# Altium footprint library ECET231PCBLIB_Rev04.PCBLIB: 16 footprints
Each footprint in its own frame and in the unit in brackets; x right, y up, seen from the top. Pads: shape width x height; smd on the part's side, far side on the other; paste and mask are expansions set on the pad; w line width, h text height; cw(c..) or ccw(c..) is an arc to the next point about the centre after c.
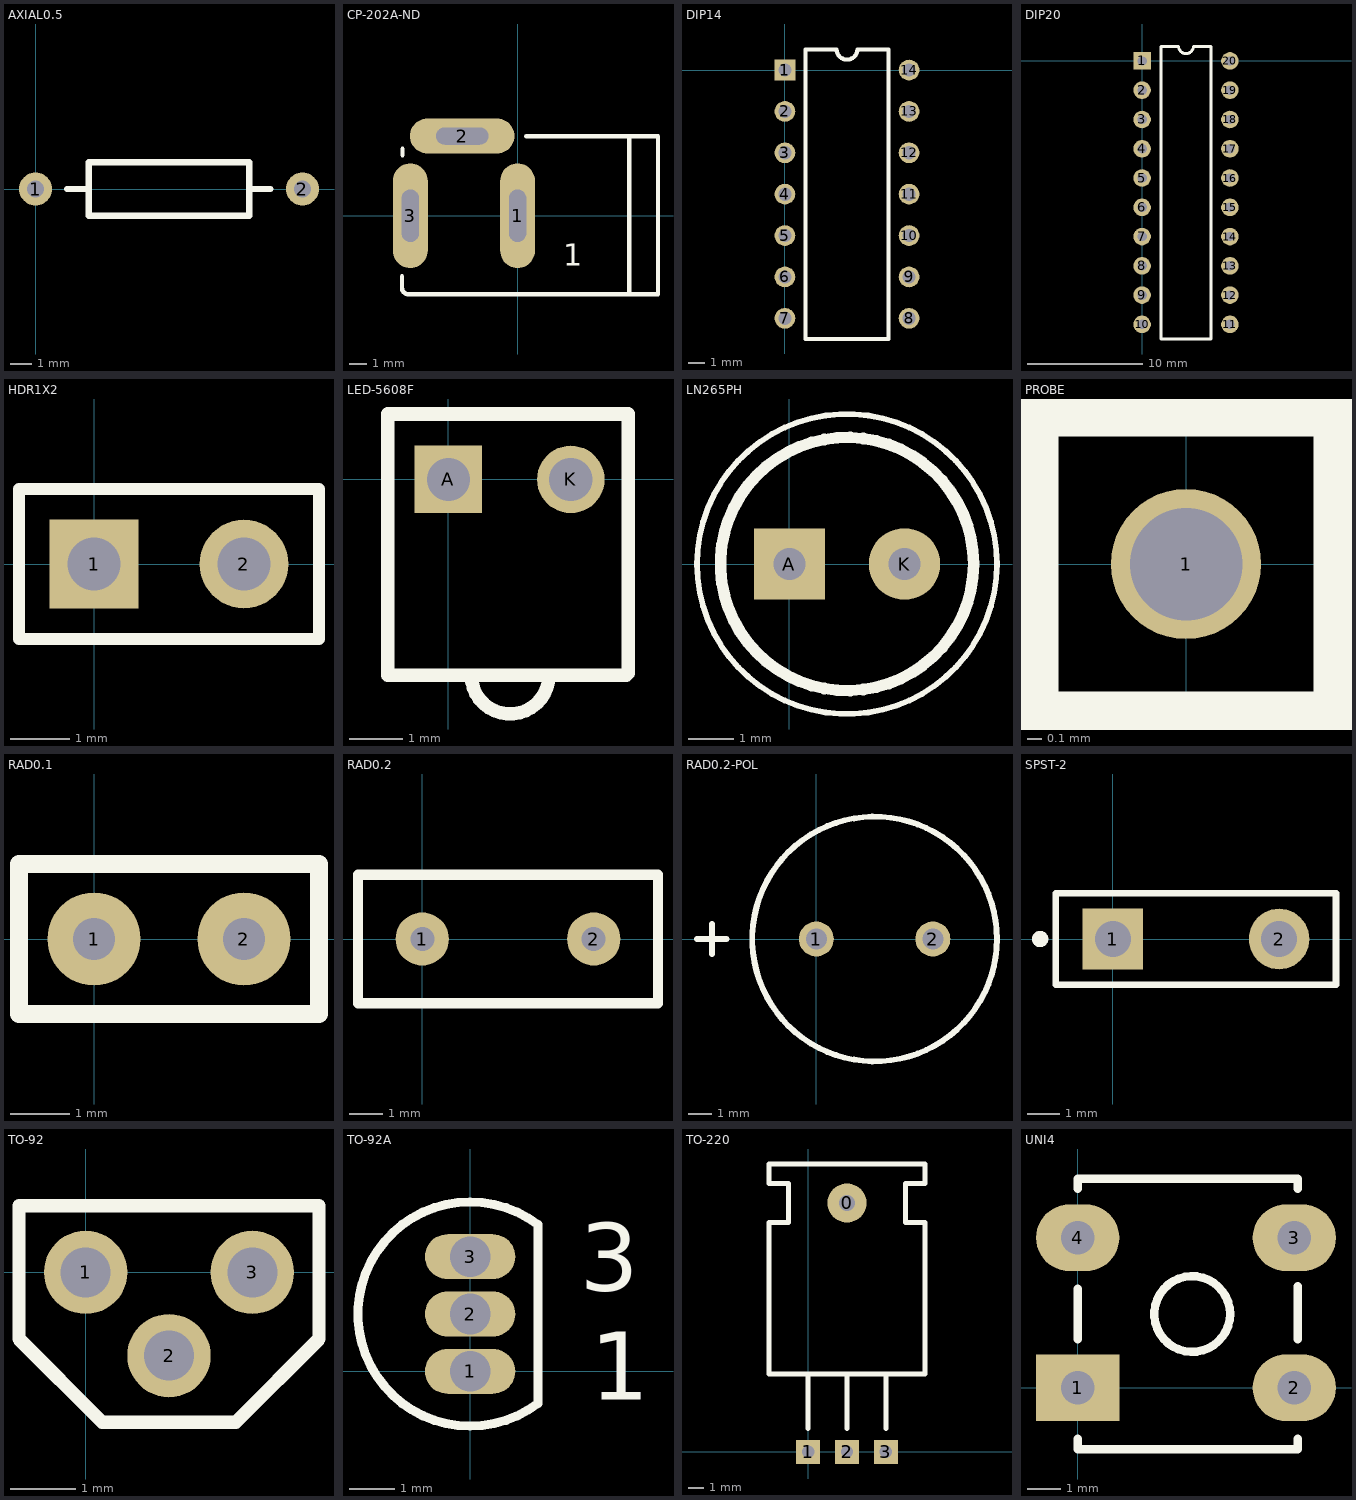
[diagram p0: the footprints below, top view; thin cyan lines are the x and y axes]

## AXIAL0.5 [mil]
pads (2):
  round 62 hole 32: 1(0,0) 2(500,0)
TopOverlay:
  lines w12: 59,0 100,0 ; 401,0 440,0 ; 100,-50 400,-50 400,50 100,50 100,-50

## CP-202A-ND [mil]
pads (3):
  oval 80x240 hole 39 slot 120 at 90 deg: 1(0,0) 3(-246.06,0)
  oval 240x80 hole 39 slot 120 at 0 deg: 2(-127.06,182.83)
TopOverlay:
  lines w10: -265,-139 -265,-166 ccw(c-251.4,-166) -251.4,-179.6 ; -264,139 -264,154 ; -253.4,-180.17 300.96,-180.17 ; 20,182 322,182 322,-180.17 298,-180.17 ; 255.9,-177.17 255.9,178.15
  text "1" at 105,-115 h50

## DIP14 [mil]
pads (14):
  rect 50x50 hole 32: 1(0,0)
  round 50 hole 32: 2(0,-100) 3(0,-200) 4(0,-300) 5(0,-400) 6(0,-500) 7(0,-600) 8(300,-600) 9(300,-500) 10(300,-400) 11(300,-300) 12(300,-200) 13(300,-100) 14(300,0)
TopOverlay:
  lines w10: 50,-650 250,-650 250,50 175,50 cw(c150,50) 125,50 50,50 50,-650

## DIP20 [mil]
pads (20):
  rect 60x60 hole 32: 1(0,0)
  round 60 hole 32: 2(0,-100) 3(0,-200) 4(0,-300) 5(0,-400) 6(0,-500) 7(0,-600) 8(0,-700) 9(0,-800) 10(0,-900) 11(300,-900) 12(300,-800) 13(300,-700) 14(300,-600) 15(300,-500) 16(300,-400) 17(300,-300) 18(300,-200) 19(300,-100) 20(300,0)
TopOverlay:
  lines w10: 65,-950 235,-950 235,50 175,50 cw(c150,50) 125,50 65,50 65,-950

## HDR1X2 [mm]
pads (2):
  rect 1.5x1.5 hole 0.9: 1(0,0)
  round 1.5 hole 0.9: 2(2.54,0)
TopOverlay:
  lines w0.2: -1.27,-1.27 3.81,-1.27 3.81,1.27 -1.27,1.27 -1.27,-1.27

## LED-5608F [mil]
pads (2):
  rect 50x50 hole 32: A(0,0)
  round 50 hole 32: K(90.55,0)
TopOverlay:
  lines w10: 16.93,-144.88 ccw(c45.67,-144.88) 74.41,-144.88 ; 131.5,-144.88 -44.88,-144.88 -44.88,-79.92 -44.88,48.42 133.07,48.42 ; 133.07,-143.31 133.07,-79.13 133.07,48.03

## LN265PH [mil]
pads (2):
  rect 62x62 hole 28: A(0,0)
  round 62 hole 28: K(100,0)
TopOverlay:
  circle w10: c50,0 r110
  circle w5: c50,0 r130.38

## PROBE [mil]
pads (1):
  round 40 hole 30: 1(0,0)
TopOverlay:
  lines w12: -40,-40 40,-40 40,40 -40,40 -40,-40

## RAD0.1 [mil]
pads (2):
  round 62 hole 28: 1(0,0) 2(100,0)
TopOverlay:
  lines w12: -50,-50 150,-50 150,50 -50,50 -50,-50

## RAD0.2 [mil]
pads (2):
  round 62 hole 28: 1(0,0) 2(200,0)
TopOverlay:
  lines w12: -75,-75 275,-75 275,75 -75,75 -75,-75

## RAD0.2-POL [mm] "Capacitor (Radial); 2 Leads"
pads (2):
  round 1.5 hole 0.9: 1(0,0) 2(5,0)
TopOverlay:
  circle w0.25: c2.5,0 r5.25
  lines w0.254: -5.12,0 -3.85,0 ; -4.485,-0.635 -4.485,0.635
Mechanical1:
  circle w0.02: c2.5,0 r5.25

## SPST-2 [mm] "Switch; 2 Leads"
pads (2):
  rect 1.85x1.85 hole 1.1: 1(0,0)
  round 1.85 hole 1.1: 2(5.08,0)
TopOverlay:
  circle w0.25: c-2.221,-0.001 r0.125
  lines w0.2: -1.74,-1.397 6.82,-1.397 6.82,1.397 -1.74,1.397 -1.74,-1.397

## TO-92 [mil]
pads (3):
  round 50 hole 30: 1(0,0) 2(50,-50) 3(100,0)
TopOverlay:
  lines w8: -40,-40 10,-90 90,-90 140,-40 140,40 -40,40 -40,-40

## TO-92A [mm]
pads (3):
  oval 2x1 hole 0.9: 1(0,0) 2(0,1.27) 3(0,2.54)
TopOverlay:
  lines w0.2: 1.5,-0.71 cw(c0,1.27) 1.5,3.25 1.5,-0.71
  text "3" at 2.43,1.78 h1.5
  text "1" at 2.66,-0.63 h1.5

## TO-220 [mil]
pads (4):
  round 100 hole 40: 0(100,639)
  rect 62x62 hole 32: 1(0,0) 2(100,0) 3(200,0)
TopOverlay:
  lines w12: -100,586 -100,200 300,200 300,589 250,589 250,689 300,689 300,739 -100,739 -100,689 -50,689 -50,589 -100,589 ; 0,60 0,200 ; 100,60 100,200 ; 200,60 200,200

## UNI4 [mm]
pads (4):
  rect 2.5x2 hole 1: 1(0,0)
  oval 2.5x2 hole 1: 2(6.5,0) 3(6.5,4.5) 4(0,4.5)
TopOverlay:
  circle w0.254: c3.436,2.214 r1.136
  lines w0.254: 0,-1.524 0,-1.85 6.604,-1.85 6.604,-1.524 ; 0,1.452 0,2.976 ; 0,5.969 0,6.278 6.604,6.278 6.604,5.969 ; 6.604,1.452 6.604,3.048